# Altium integrated library TI Data Converters Analog to Digital Converter.IntLib: 2197 symbols (part 99 of 168)
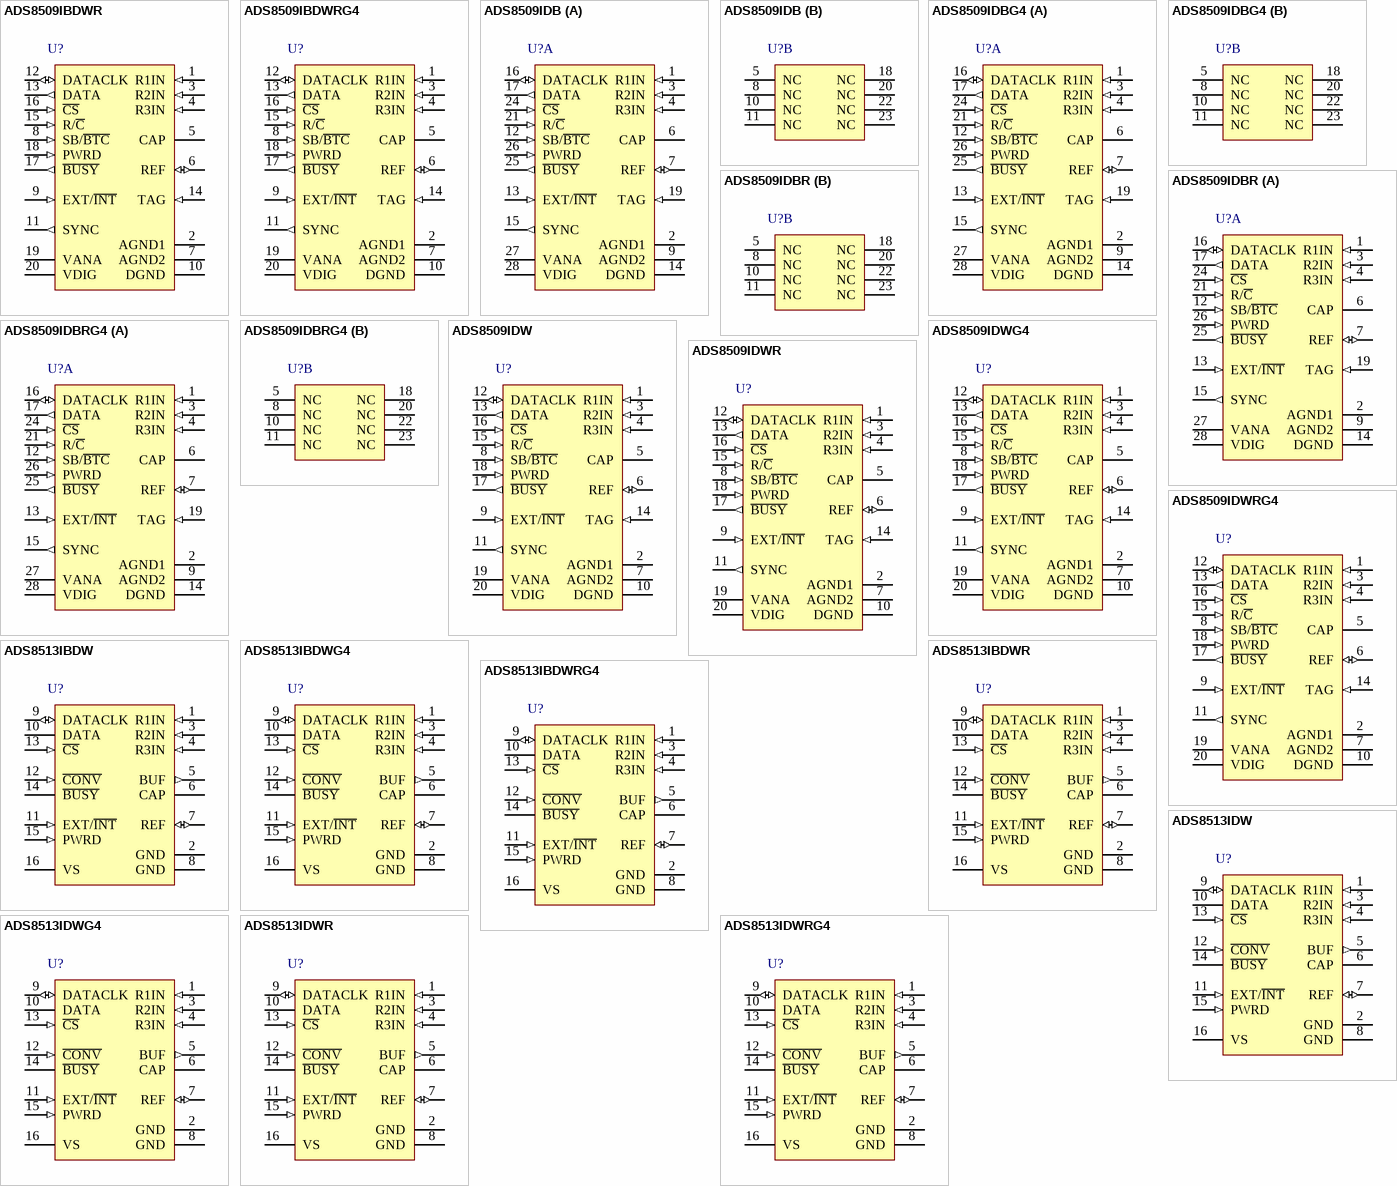
[diagram p224: symbols ADS8509IBDWR to ADS8513IDWRG4]

## ADS8509IDB
designator U?
16-Bit 250 kHz CMOS ADC with Serial Interface 2.5 V Internal Reference, -40 to 85 degC, 28-pin SOP (DB28), Green (RoHS & no Sb/Br); Manufacturer: Texas Instruments; PartNumber: ADS8509IDB; # Input Channels: 1; Analog Voltage AV/DD(Max)(V): 5.25; Analog Voltage AV/DD(Min)(V): 4.75; Architecture: SAR; INL(Max)(+/-LSB): 3; Interface: Serial SPI; Resolution(Bits): 16; Sample Rate (max)(SPS): 250k; SFDR(dB): 99; SINAD(dB): 88; SubFamily: Precision ADC (<=10MSPS); DatasheetVersion: SLAS324C; PackageVersion: 4040065/E, 12/2001; PackageReference: DB28; PackageDescription: 28-Pin Plastic Small Outline, Body 10.2 X 5.3 mm, Pitch 0.65 mm; Supplier 1: Digi-Key; Supplier Part Number 1: ADS1286UK-ND; Supplier 2: Mouser; Supplier Part Number 2: 595-ADS1286UK; Digital Supply(Max)(V): 5.25; Digital Supply(Min)(V): 4.75; Eco-Plan: Green (RoHS & no Sb/Br); SNR(dB): 88; Mounting Technology: Surface Mount; Code_JEDEC: MO-150; ComponentLink1Description: Manufacturer URL; ComponentLink1URL: http://www.ti.com/; ComponentLink2Description: Datasheet; ComponentLink2URL: http://www.ti.com/general/docs/lit/getliterature.tsp?genericPartNumber=ADS8509&fileType=pdf; ComponentLink3Description: Package Specification; ComponentLink3URL: http://www.ti.com/lit/ml/msso002e/msso002e.pdf
footprint TI-DB28_N (SOP, 28-Leads, Body 10.2x5.3mm, Pitch 0.65mm, IPC Medium Density)
footprint TI-DB28_L (SOP, 28-Leads, Body 10.2x5.3mm, Pitch 0.65mm, IPC High Density)
footprint TI-DB28_M (SOP, 28-Leads, Body 10.2x5.3mm, Pitch 0.65mm, IPC Low Density)
part A pins: 1 R1IN (in) "Analog input.", 2 AGND1 (power) "Analog ground. Used internally as ground reference point. Minimal current flow.", 3 R2IN (in) "Analog input.", 4 R3IN (in) "Analog input.", 6 CAP "Reference buffer capacitor. 2.2-uF Tantalum to ground.", 7 REF (io) "Reference input/output. Outputs internal 2.5-V reference. Can also be driven by external system reference. In both cases, bypass to ground with a 2.2-uF tantalum capacitor.", 9 AGND2 (power) "Analog ground", 12 SB/~{BTC} (in) "Select straight binary or binary 2's complement data output format. If high, data is output in a straight binary format. If low, data is output in a binary 2's complement format.", 13 EXT/~{INT} (in) "Selects external or internal clock for transmitting data. If high, data is output synchronized to the clock input on DATACLK. If low, a convert command initiates the transmission of the data from the previous conversion, (See Datasheet)", 14 DGND (power) "Digital ground", 15 SYNC (out) "Sync output. This pin is used to supply a data synchronization pulse when the EXT level is high and at least one external clock pulse has occurred when not in the read mode. See the external clock modes desciptions.", 16 DATACLK (io) "Either an input or an output depending on the EXT/I\N\T\ level. Output data is synchronized to this clock. If EXT/I\N\T\ is low, DATACLK transmits 16 pulses after each conversion and then remains low between conversions.", 17 DATA (out) "Serial data output. Data is synchronized to DATACLK with the format determined by the level of SB/B\T\C\. In the external clock mode, after 16 bits of data, the ADS8509 outputs the level input on TAG as long as C\S\ is low (See Datasheet)", 19 TAG (in) "Tag input for use in the external clock mode. If EXT is high, digital data input from TAG is output on DATA with a delay that is dependent on the external clock mode.", 21 R/~{C} (in) "Read/convert input. With C\S\ low, a falling edge on R/C\ puts the internal sample-and-hold into the hold state and starts a conversion. When EXT/I\N\T\ is low, this also initiates the transmission of the data results from (See Datasheet)", 24 ~{CS} (in) "Chip select. Internally ORed with R/C\.", 25 ~{BUSY} (out) "Busy output. Falls when a conversion is started and remains low until the conversion is completed and the data is latched into the output shift register.", 26 PWRD (in) "Power down input. If high, conversions are inhibited and power consumption is significantly reduced. Results from the previous conversion are maintained in the output shift register.", 27 VANA (power) "Analog supply input. Nominally +5 V. Connect directly to pin 20 and decouple to ground with 0.1-uF ceramic and 10-uF tantalum capacitors.", 28 VDIG (power) "Digital supply input. Nominally +5 V. Connect directly to pin 19. Must be <= VANA."
part B pins: 5 NC "No connect", 8 NC "No connect", 10 NC "No connect", 11 NC "No connect", 18 NC "No connect", 20 NC "No connect", 22 NC "No connect", 23 NC "No connect"

## ADS8509IDBG4
designator U?
16-Bit 250 kHz CMOS ADC with Serial Interface 2.5 V Internal Reference, -40 to 85 degC, 28-pin SOP (DB28), Green (RoHS & no Sb/Br); Manufacturer: Texas Instruments; PartNumber: ADS8509IDBG4; # Input Channels: 1; Analog Voltage AV/DD(Max)(V): 5.25; Analog Voltage AV/DD(Min)(V): 4.75; Architecture: SAR; INL(Max)(+/-LSB): 3; Interface: Serial SPI; Resolution(Bits): 16; Sample Rate (max)(SPS): 250k; SFDR(dB): 99; SINAD(dB): 88; SubFamily: Precision ADC (<=10MSPS); DatasheetVersion: SLAS324C; PackageVersion: 4040065/E, 12/2001; PackageReference: DB28; PackageDescription: 28-Pin Plastic Small Outline, Body 10.2 X 5.3 mm, Pitch 0.65 mm; Supplier 1: Digi-Key; Supplier Part Number 1: ADS1286UKG4-ND; Supplier 2: Mouser; Supplier Part Number 2: 595-ADS1286UKG4; Digital Supply(Max)(V): 5.25; Digital Supply(Min)(V): 4.75; Eco-Plan: Green (RoHS & no Sb/Br); SNR(dB): 88; Mounting Technology: Surface Mount; Code_JEDEC: MO-150; ComponentLink1Description: Manufacturer URL; ComponentLink1URL: http://www.ti.com/; ComponentLink2Description: Datasheet; ComponentLink2URL: http://www.ti.com/general/docs/lit/getliterature.tsp?genericPartNumber=ADS8509&fileType=pdf; ComponentLink3Description: Package Specification; ComponentLink3URL: http://www.ti.com/lit/ml/msso002e/msso002e.pdf
footprint TI-DB28_N (SOP, 28-Leads, Body 10.2x5.3mm, Pitch 0.65mm, IPC Medium Density)
footprint TI-DB28_L (SOP, 28-Leads, Body 10.2x5.3mm, Pitch 0.65mm, IPC High Density)
footprint TI-DB28_M (SOP, 28-Leads, Body 10.2x5.3mm, Pitch 0.65mm, IPC Low Density)
part A pins: 1 R1IN (in) "Analog input.", 2 AGND1 (power) "Analog ground. Used internally as ground reference point. Minimal current flow.", 3 R2IN (in) "Analog input.", 4 R3IN (in) "Analog input.", 6 CAP "Reference buffer capacitor. 2.2-uF Tantalum to ground.", 7 REF (io) "Reference input/output. Outputs internal 2.5-V reference. Can also be driven by external system reference. In both cases, bypass to ground with a 2.2-uF tantalum capacitor.", 9 AGND2 (power) "Analog ground", 12 SB/~{BTC} (in) "Select straight binary or binary 2's complement data output format. If high, data is output in a straight binary format. If low, data is output in a binary 2's complement format.", 13 EXT/~{INT} (in) "Selects external or internal clock for transmitting data. If high, data is output synchronized to the clock input on DATACLK. If low, a convert command initiates the transmission of the data from the previous conversion, (See Datasheet)", 14 DGND (power) "Digital ground", 15 SYNC (out) "Sync output. This pin is used to supply a data synchronization pulse when the EXT level is high and at least one external clock pulse has occurred when not in the read mode. See the external clock modes desciptions.", 16 DATACLK (io) "Either an input or an output depending on the EXT/I\N\T\ level. Output data is synchronized to this clock. If EXT/I\N\T\ is low, DATACLK transmits 16 pulses after each conversion and then remains low between conversions.", 17 DATA (out) "Serial data output. Data is synchronized to DATACLK with the format determined by the level of SB/B\T\C\. In the external clock mode, after 16 bits of data, the ADS8509 outputs the level input on TAG as long as C\S\ is low (See Datasheet)", 19 TAG (in) "Tag input for use in the external clock mode. If EXT is high, digital data input from TAG is output on DATA with a delay that is dependent on the external clock mode.", 21 R/~{C} (in) "Read/convert input. With C\S\ low, a falling edge on R/C\ puts the internal sample-and-hold into the hold state and starts a conversion. When EXT/I\N\T\ is low, this also initiates the transmission of the data results from (See Datasheet)", 24 ~{CS} (in) "Chip select. Internally ORed with R/C\.", 25 ~{BUSY} (out) "Busy output. Falls when a conversion is started and remains low until the conversion is completed and the data is latched into the output shift register.", 26 PWRD (in) "Power down input. If high, conversions are inhibited and power consumption is significantly reduced. Results from the previous conversion are maintained in the output shift register.", 27 VANA (power) "Analog supply input. Nominally +5 V. Connect directly to pin 20 and decouple to ground with 0.1-uF ceramic and 10-uF tantalum capacitors.", 28 VDIG (power) "Digital supply input. Nominally +5 V. Connect directly to pin 19. Must be <= VANA."
part B pins: 5 NC "No connect", 8 NC "No connect", 10 NC "No connect", 11 NC "No connect", 18 NC "No connect", 20 NC "No connect", 22 NC "No connect", 23 NC "No connect"

## ADS8509IDBR
designator U?
16-Bit 250 kHz CMOS ADC with Serial Interface 2.5 V Internal Reference, -40 to 85 degC, 28-pin SOP (DB28), Green (RoHS & no Sb/Br); Manufacturer: Texas Instruments; PartNumber: ADS8509IDBR; # Input Channels: 1; Analog Voltage AV/DD(Max)(V): 5.25; Analog Voltage AV/DD(Min)(V): 4.75; Architecture: SAR; INL(Max)(+/-LSB): 3; Interface: Serial SPI; Resolution(Bits): 16; Sample Rate (max)(SPS): 250k; SFDR(dB): 99; SINAD(dB): 88; SubFamily: Precision ADC (<=10MSPS); DatasheetVersion: SLAS324C; PackageVersion: 4040065/E, 12/2001; PackageReference: DB28; PackageDescription: 28-Pin Plastic Small Outline, Body 10.2 X 5.3 mm, Pitch 0.65 mm; Supplier 1: Digi-Key; Supplier Part Number 1: ADS1286UL-ND; Supplier 2: Newark; Supplier Part Number 2: 74C7024; Supplier 3: Mouser; Supplier Part Number 3: 595-ADS1286UL; Digital Supply(Max)(V): 5.25; Digital Supply(Min)(V): 4.75; Eco-Plan: Green (RoHS & no Sb/Br); SNR(dB): 88; Mounting Technology: Surface Mount; Code_JEDEC: MO-150; ComponentLink1Description: Manufacturer URL; ComponentLink1URL: http://www.ti.com/; ComponentLink2Description: Datasheet; ComponentLink2URL: http://www.ti.com/general/docs/lit/getliterature.tsp?genericPartNumber=ADS8509&fileType=pdf; ComponentLink3Description: Package Specification; ComponentLink3URL: http://www.ti.com/lit/ml/msso002e/msso002e.pdf
footprint TI-DB28_N (SOP, 28-Leads, Body 10.2x5.3mm, Pitch 0.65mm, IPC Medium Density)
footprint TI-DB28_L (SOP, 28-Leads, Body 10.2x5.3mm, Pitch 0.65mm, IPC High Density)
footprint TI-DB28_M (SOP, 28-Leads, Body 10.2x5.3mm, Pitch 0.65mm, IPC Low Density)
part A pins: 1 R1IN (in) "Analog input.", 2 AGND1 (power) "Analog ground. Used internally as ground reference point. Minimal current flow.", 3 R2IN (in) "Analog input.", 4 R3IN (in) "Analog input.", 6 CAP "Reference buffer capacitor. 2.2-uF Tantalum to ground.", 7 REF (io) "Reference input/output. Outputs internal 2.5-V reference. Can also be driven by external system reference. In both cases, bypass to ground with a 2.2-uF tantalum capacitor.", 9 AGND2 (power) "Analog ground", 12 SB/~{BTC} (in) "Select straight binary or binary 2's complement data output format. If high, data is output in a straight binary format. If low, data is output in a binary 2's complement format.", 13 EXT/~{INT} (in) "Selects external or internal clock for transmitting data. If high, data is output synchronized to the clock input on DATACLK. If low, a convert command initiates the transmission of the data from the previous conversion, (See Datasheet)", 14 DGND (power) "Digital ground", 15 SYNC (out) "Sync output. This pin is used to supply a data synchronization pulse when the EXT level is high and at least one external clock pulse has occurred when not in the read mode. See the external clock modes desciptions.", 16 DATACLK (io) "Either an input or an output depending on the EXT/I\N\T\ level. Output data is synchronized to this clock. If EXT/I\N\T\ is low, DATACLK transmits 16 pulses after each conversion and then remains low between conversions.", 17 DATA (out) "Serial data output. Data is synchronized to DATACLK with the format determined by the level of SB/B\T\C\. In the external clock mode, after 16 bits of data, the ADS8509 outputs the level input on TAG as long as C\S\ is low (See Datasheet)", 19 TAG (in) "Tag input for use in the external clock mode. If EXT is high, digital data input from TAG is output on DATA with a delay that is dependent on the external clock mode.", 21 R/~{C} (in) "Read/convert input. With C\S\ low, a falling edge on R/C\ puts the internal sample-and-hold into the hold state and starts a conversion. When EXT/I\N\T\ is low, this also initiates the transmission of the data results from (See Datasheet)", 24 ~{CS} (in) "Chip select. Internally ORed with R/C\.", 25 ~{BUSY} (out) "Busy output. Falls when a conversion is started and remains low until the conversion is completed and the data is latched into the output shift register.", 26 PWRD (in) "Power down input. If high, conversions are inhibited and power consumption is significantly reduced. Results from the previous conversion are maintained in the output shift register.", 27 VANA (power) "Analog supply input. Nominally +5 V. Connect directly to pin 20 and decouple to ground with 0.1-uF ceramic and 10-uF tantalum capacitors.", 28 VDIG (power) "Digital supply input. Nominally +5 V. Connect directly to pin 19. Must be <= VANA."
part B pins: 5 NC "No connect", 8 NC "No connect", 10 NC "No connect", 11 NC "No connect", 18 NC "No connect", 20 NC "No connect", 22 NC "No connect", 23 NC "No connect"

## ADS8509IDBRG4
designator U?
16-Bit 250 kHz CMOS ADC with Serial Interface 2.5 V Internal Reference, -40 to 85 degC, 28-pin SOP (DB28), Green (RoHS & no Sb/Br); Manufacturer: Texas Instruments; PartNumber: ADS8509IDBRG4; # Input Channels: 1; Analog Voltage AV/DD(Max)(V): 5.25; Analog Voltage AV/DD(Min)(V): 4.75; Architecture: SAR; INL(Max)(+/-LSB): 3; Interface: Serial SPI; Resolution(Bits): 16; Sample Rate (max)(SPS): 250k; SFDR(dB): 99; SINAD(dB): 88; SubFamily: Precision ADC (<=10MSPS); DatasheetVersion: SLAS324C; PackageVersion: 4040065/E, 12/2001; PackageReference: DB28; PackageDescription: 28-Pin Plastic Small Outline, Body 10.2 X 5.3 mm, Pitch 0.65 mm; Supplier 1: Digi-Key; Supplier Part Number 1: ADS1286UL/2K5-ND; Supplier 2: Mouser; Supplier Part Number 2: 595-ADS1286UL/2K5; Digital Supply(Max)(V): 5.25; Digital Supply(Min)(V): 4.75; Eco-Plan: Green (RoHS & no Sb/Br); SNR(dB): 88; Mounting Technology: Surface Mount; Code_JEDEC: MO-150; ComponentLink1Description: Manufacturer URL; ComponentLink1URL: http://www.ti.com/; ComponentLink2Description: Datasheet; ComponentLink2URL: http://www.ti.com/general/docs/lit/getliterature.tsp?genericPartNumber=ADS8509&fileType=pdf; ComponentLink3Description: Package Specification; ComponentLink3URL: http://www.ti.com/lit/ml/msso002e/msso002e.pdf
footprint TI-DB28_N (SOP, 28-Leads, Body 10.2x5.3mm, Pitch 0.65mm, IPC Medium Density)
footprint TI-DB28_L (SOP, 28-Leads, Body 10.2x5.3mm, Pitch 0.65mm, IPC High Density)
footprint TI-DB28_M (SOP, 28-Leads, Body 10.2x5.3mm, Pitch 0.65mm, IPC Low Density)
part A pins: 1 R1IN (in) "Analog input.", 2 AGND1 (power) "Analog ground. Used internally as ground reference point. Minimal current flow.", 3 R2IN (in) "Analog input.", 4 R3IN (in) "Analog input.", 6 CAP "Reference buffer capacitor. 2.2-uF Tantalum to ground.", 7 REF (io) "Reference input/output. Outputs internal 2.5-V reference. Can also be driven by external system reference. In both cases, bypass to ground with a 2.2-uF tantalum capacitor.", 9 AGND2 (power) "Analog ground", 12 SB/~{BTC} (in) "Select straight binary or binary 2's complement data output format. If high, data is output in a straight binary format. If low, data is output in a binary 2's complement format.", 13 EXT/~{INT} (in) "Selects external or internal clock for transmitting data. If high, data is output synchronized to the clock input on DATACLK. If low, a convert command initiates the transmission of the data from the previous conversion, (See Datasheet)", 14 DGND (power) "Digital ground", 15 SYNC (out) "Sync output. This pin is used to supply a data synchronization pulse when the EXT level is high and at least one external clock pulse has occurred when not in the read mode. See the external clock modes desciptions.", 16 DATACLK (io) "Either an input or an output depending on the EXT/I\N\T\ level. Output data is synchronized to this clock. If EXT/I\N\T\ is low, DATACLK transmits 16 pulses after each conversion and then remains low between conversions.", 17 DATA (out) "Serial data output. Data is synchronized to DATACLK with the format determined by the level of SB/B\T\C\. In the external clock mode, after 16 bits of data, the ADS8509 outputs the level input on TAG as long as C\S\ is low (See Datasheet)", 19 TAG (in) "Tag input for use in the external clock mode. If EXT is high, digital data input from TAG is output on DATA with a delay that is dependent on the external clock mode.", 21 R/~{C} (in) "Read/convert input. With C\S\ low, a falling edge on R/C\ puts the internal sample-and-hold into the hold state and starts a conversion. When EXT/I\N\T\ is low, this also initiates the transmission of the data results from (See Datasheet)", 24 ~{CS} (in) "Chip select. Internally ORed with R/C\.", 25 ~{BUSY} (out) "Busy output. Falls when a conversion is started and remains low until the conversion is completed and the data is latched into the output shift register.", 26 PWRD (in) "Power down input. If high, conversions are inhibited and power consumption is significantly reduced. Results from the previous conversion are maintained in the output shift register.", 27 VANA (power) "Analog supply input. Nominally +5 V. Connect directly to pin 20 and decouple to ground with 0.1-uF ceramic and 10-uF tantalum capacitors.", 28 VDIG (power) "Digital supply input. Nominally +5 V. Connect directly to pin 19. Must be <= VANA."
part B pins: 5 NC "No connect", 8 NC "No connect", 10 NC "No connect", 11 NC "No connect", 18 NC "No connect", 20 NC "No connect", 22 NC "No connect", 23 NC "No connect"

## ADS8509IDW
designator U?
16-Bit 250 kHz CMOS ADC with Serial Interface 2.5 V Internal Reference, -40 to 85 degC, 20-pin SOIC (DW20), Green (RoHS & no Sb/Br); Manufacturer: Texas Instruments; PartNumber: ADS8509IDW; # Input Channels: 1; Analog Voltage AV/DD(Max)(V): 5.25; Analog Voltage AV/DD(Min)(V): 4.75; Architecture: SAR; INL(Max)(+/-LSB): 3; Interface: Serial SPI; Resolution(Bits): 16; Sample Rate (max)(SPS): 250k; SFDR(dB): 99; SINAD(dB): 88; SubFamily: Precision ADC (<=10MSPS); DatasheetVersion: SLAS324C; PackageVersion: 4040000-4/G, 01/2011; PackageReference: DW20; PackageDescription: 20-Pin Plastic Small Outline, Body 12.8 x 7.5 mm, Pitch 1.27 mm; Supplier 1: Digi-Key; Supplier Part Number 1: ADS1286UL/2K5G4-ND; Supplier 2: Mouser; Supplier Part Number 2: 595-ADS1286UL/2K5G4; Digital Supply(Max)(V): 5.25; Digital Supply(Min)(V): 4.75; Eco-Plan: Green (RoHS & no Sb/Br); SNR(dB): 88; Mounting Technology: Surface Mount; Code_JEDEC: MO-013; ComponentLink1Description: Manufacturer URL; ComponentLink1URL: http://www.ti.com/; ComponentLink2Description: Datasheet; ComponentLink2URL: http://www.ti.com/general/docs/lit/getliterature.tsp?genericPartNumber=ADS8509&fileType=pdf; ComponentLink3Description: Package Specification; ComponentLink3URL: http://www.ti.com/lit/ml/mpds173a/mpds173a.pdf
footprint TI-DW20_N (SOIC, 20-Leads, Body 12.8x7.5mm, Pitch 1.27mm, IPC Medium Density)
footprint TI-DW20_L (SOIC, 20-Leads, Body 12.8x7.5mm, Pitch 1.27mm, IPC High Density)
footprint TI-DW20_M (SOIC, 20-Leads, Body 12.8x7.5mm, Pitch 1.27mm, IPC Low Density)
pins: 1 R1IN (in) "Analog input.", 2 AGND1 (power) "Analog ground. Used internally as ground reference point. Minimal current flow.", 3 R2IN (in) "Analog input.", 4 R3IN (in) "Analog input.", 5 CAP "Reference buffer capacitor. 2.2-uF Tantalum to ground.", 6 REF (io) "Reference input/output. Outputs internal 2.5-V reference. Can also be driven by external system reference. In both cases, bypass to ground with a 2.2-uF tantalum capacitor.", 7 AGND2 (power) "Analog ground", 8 SB/~{BTC} (in) "Select straight binary or binary 2's complement data output format. If high, data is output in a straight binary format. If low, data is output in a binary 2's complement format.", 9 EXT/~{INT} (in) "Selects external or internal clock for transmitting data. If high, data is output synchronized to the clock input on DATACLK. If low, a convert command initiates the transmission of the data from the previous conversion, (See Datasheet)", 10 DGND (power) "Digital ground", 11 SYNC (out) "Sync output. This pin is used to supply a data synchronization pulse when the EXT level is high and at least one external clock pulse has occurred when not in the read mode. See the external clock modes desciptions.", 12 DATACLK (io) "Either an input or an output depending on the EXT/I\N\T\ level. Output data is synchronized to this clock. If EXT/I\N\T\ is low, DATACLK transmits 16 pulses after each conversion and then remains low between conversions.", 13 DATA (out) "Serial data output. Data is synchronized to DATACLK with the format determined by the level of SB/B\T\C\. In the external clock mode, after 16 bits of data, the ADS8509 outputs the level input on TAG as long as C\S\ is low (See Datasheet)", 14 TAG (in) "Tag input for use in the external clock mode. If EXT is high, digital data input from TAG is output on DATA with a delay that is dependent on the external clock mode.", 15 R/~{C} (in) "Read/convert input. With C\S\ low, a falling edge on R/C\ puts the internal sample-and-hold into the hold state and starts a conversion. When EXT/I\N\T\ is low, this also initiates the transmission of the data results from (See Datasheet)", 16 ~{CS} (in) "Chip select. Internally ORed with R/C\.", 17 ~{BUSY} (out) "Busy output. Falls when a conversion is started and remains low until the conversion is completed and the data is latched into the output shift register.", 18 PWRD (in) "Power down input. If high, conversions are inhibited and power consumption is significantly reduced. Results from the previous conversion are maintained in the output shift register.", 19 VANA (power) "Analog supply input. Nominally +5 V. Connect directly to pin 20 and decouple to ground with 0.1-uF ceramic and 10-uF tantalum capacitors.", 20 VDIG (power) "Digital supply input. Nominally +5 V. Connect directly to pin 19. Must be =< VANA."

## ADS8509IDWG4
designator U?
16-Bit 250 kHz CMOS ADC with Serial Interface 2.5 V Internal Reference, -40 to 85 degC, 20-pin SOIC (DW20), Green (RoHS & no Sb/Br); Manufacturer: Texas Instruments; PartNumber: ADS8509IDWG4; # Input Channels: 1; Analog Voltage AV/DD(Max)(V): 5.25; Analog Voltage AV/DD(Min)(V): 4.75; Architecture: SAR; INL(Max)(+/-LSB): 3; Interface: Serial SPI; Resolution(Bits): 16; Sample Rate (max)(SPS): 250k; SFDR(dB): 99; SINAD(dB): 88; SubFamily: Precision ADC (<=10MSPS); DatasheetVersion: SLAS324C; PackageVersion: 4040000-4/G, 01/2011; PackageReference: DW20; PackageDescription: 20-Pin Plastic Small Outline, Body 12.8 x 7.5 mm, Pitch 1.27 mm; Supplier 1: Digi-Key; Supplier Part Number 1: ADS1286ULG4-ND; Supplier 2: Mouser; Supplier Part Number 2: 595-ADS1286ULG4; Digital Supply(Max)(V): 5.25; Digital Supply(Min)(V): 4.75; Eco-Plan: Green (RoHS & no Sb/Br); SNR(dB): 88; Mounting Technology: Surface Mount; Code_JEDEC: MO-013; ComponentLink1Description: Manufacturer URL; ComponentLink1URL: http://www.ti.com/; ComponentLink2Description: Datasheet; ComponentLink2URL: http://www.ti.com/general/docs/lit/getliterature.tsp?genericPartNumber=ADS8509&fileType=pdf; ComponentLink3Description: Package Specification; ComponentLink3URL: http://www.ti.com/lit/ml/mpds173a/mpds173a.pdf
footprint TI-DW20_N (SOIC, 20-Leads, Body 12.8x7.5mm, Pitch 1.27mm, IPC Medium Density)
footprint TI-DW20_L (SOIC, 20-Leads, Body 12.8x7.5mm, Pitch 1.27mm, IPC High Density)
footprint TI-DW20_M (SOIC, 20-Leads, Body 12.8x7.5mm, Pitch 1.27mm, IPC Low Density)
pins: 1 R1IN (in) "Analog input.", 2 AGND1 (power) "Analog ground. Used internally as ground reference point. Minimal current flow.", 3 R2IN (in) "Analog input.", 4 R3IN (in) "Analog input.", 5 CAP "Reference buffer capacitor. 2.2-uF Tantalum to ground.", 6 REF (io) "Reference input/output. Outputs internal 2.5-V reference. Can also be driven by external system reference. In both cases, bypass to ground with a 2.2-uF tantalum capacitor.", 7 AGND2 (power) "Analog ground", 8 SB/~{BTC} (in) "Select straight binary or binary 2's complement data output format. If high, data is output in a straight binary format. If low, data is output in a binary 2's complement format.", 9 EXT/~{INT} (in) "Selects external or internal clock for transmitting data. If high, data is output synchronized to the clock input on DATACLK. If low, a convert command initiates the transmission of the data from the previous conversion, (See Datasheet)", 10 DGND (power) "Digital ground", 11 SYNC (out) "Sync output. This pin is used to supply a data synchronization pulse when the EXT level is high and at least one external clock pulse has occurred when not in the read mode. See the external clock modes desciptions.", 12 DATACLK (io) "Either an input or an output depending on the EXT/I\N\T\ level. Output data is synchronized to this clock. If EXT/I\N\T\ is low, DATACLK transmits 16 pulses after each conversion and then remains low between conversions.", 13 DATA (out) "Serial data output. Data is synchronized to DATACLK with the format determined by the level of SB/B\T\C\. In the external clock mode, after 16 bits of data, the ADS8509 outputs the level input on TAG as long as C\S\ is low (See Datasheet)", 14 TAG (in) "Tag input for use in the external clock mode. If EXT is high, digital data input from TAG is output on DATA with a delay that is dependent on the external clock mode.", 15 R/~{C} (in) "Read/convert input. With C\S\ low, a falling edge on R/C\ puts the internal sample-and-hold into the hold state and starts a conversion. When EXT/I\N\T\ is low, this also initiates the transmission of the data results from (See Datasheet)", 16 ~{CS} (in) "Chip select. Internally ORed with R/C\.", 17 ~{BUSY} (out) "Busy output. Falls when a conversion is started and remains low until the conversion is completed and the data is latched into the output shift register.", 18 PWRD (in) "Power down input. If high, conversions are inhibited and power consumption is significantly reduced. Results from the previous conversion are maintained in the output shift register.", 19 VANA (power) "Analog supply input. Nominally +5 V. Connect directly to pin 20 and decouple to ground with 0.1-uF ceramic and 10-uF tantalum capacitors.", 20 VDIG (power) "Digital supply input. Nominally +5 V. Connect directly to pin 19. Must be =< VANA."

## ADS8509IDWR
designator U?
16-Bit 250 kHz CMOS ADC with Serial Interface 2.5 V Internal Reference, -40 to 85 degC, 20-pin SOIC (DW20), Green (RoHS & no Sb/Br); Manufacturer: Texas Instruments; PartNumber: ADS8509IDWR; # Input Channels: 1; Analog Voltage AV/DD(Max)(V): 5.25; Analog Voltage AV/DD(Min)(V): 4.75; Architecture: SAR; INL(Max)(+/-LSB): 3; Interface: Serial SPI; Resolution(Bits): 16; Sample Rate (max)(SPS): 250k; SFDR(dB): 99; SINAD(dB): 88; SubFamily: Precision ADC (<=10MSPS); DatasheetVersion: SLAS324C; PackageVersion: 4040000-4/G, 01/2011; PackageReference: DW20; PackageDescription: 20-Pin Plastic Small Outline, Body 12.8 x 7.5 mm, Pitch 1.27 mm; Supplier 1: Digi-Key; Supplier Part Number 1: ADS7825P-ND; Supplier 2: Newark; Supplier Part Number 2: 14M8150; Supplier 3: Mouser; Supplier Part Number 3: 595-ADS7825P; Digital Supply(Max)(V): 5.25; Digital Supply(Min)(V): 4.75; Eco-Plan: Green (RoHS & no Sb/Br); SNR(dB): 88; Mounting Technology: Surface Mount; Code_JEDEC: MO-013; ComponentLink1Description: Manufacturer URL; ComponentLink1URL: http://www.ti.com/; ComponentLink2Description: Datasheet; ComponentLink2URL: http://www.ti.com/general/docs/lit/getliterature.tsp?genericPartNumber=ADS8509&fileType=pdf; ComponentLink3Description: Package Specification; ComponentLink3URL: http://www.ti.com/lit/ml/mpds173a/mpds173a.pdf
footprint TI-DW20_N (SOIC, 20-Leads, Body 12.8x7.5mm, Pitch 1.27mm, IPC Medium Density)
footprint TI-DW20_L (SOIC, 20-Leads, Body 12.8x7.5mm, Pitch 1.27mm, IPC High Density)
footprint TI-DW20_M (SOIC, 20-Leads, Body 12.8x7.5mm, Pitch 1.27mm, IPC Low Density)
pins: 1 R1IN (in) "Analog input.", 2 AGND1 (power) "Analog ground. Used internally as ground reference point. Minimal current flow.", 3 R2IN (in) "Analog input.", 4 R3IN (in) "Analog input.", 5 CAP "Reference buffer capacitor. 2.2-uF Tantalum to ground.", 6 REF (io) "Reference input/output. Outputs internal 2.5-V reference. Can also be driven by external system reference. In both cases, bypass to ground with a 2.2-uF tantalum capacitor.", 7 AGND2 (power) "Analog ground", 8 SB/~{BTC} (in) "Select straight binary or binary 2's complement data output format. If high, data is output in a straight binary format. If low, data is output in a binary 2's complement format.", 9 EXT/~{INT} (in) "Selects external or internal clock for transmitting data. If high, data is output synchronized to the clock input on DATACLK. If low, a convert command initiates the transmission of the data from the previous conversion, (See Datasheet)", 10 DGND (power) "Digital ground", 11 SYNC (out) "Sync output. This pin is used to supply a data synchronization pulse when the EXT level is high and at least one external clock pulse has occurred when not in the read mode. See the external clock modes desciptions.", 12 DATACLK (io) "Either an input or an output depending on the EXT/I\N\T\ level. Output data is synchronized to this clock. If EXT/I\N\T\ is low, DATACLK transmits 16 pulses after each conversion and then remains low between conversions.", 13 DATA (out) "Serial data output. Data is synchronized to DATACLK with the format determined by the level of SB/B\T\C\. In the external clock mode, after 16 bits of data, the ADS8509 outputs the level input on TAG as long as C\S\ is low (See Datasheet)", 14 TAG (in) "Tag input for use in the external clock mode. If EXT is high, digital data input from TAG is output on DATA with a delay that is dependent on the external clock mode.", 15 R/~{C} (in) "Read/convert input. With C\S\ low, a falling edge on R/C\ puts the internal sample-and-hold into the hold state and starts a conversion. When EXT/I\N\T\ is low, this also initiates the transmission of the data results from (See Datasheet)", 16 ~{CS} (in) "Chip select. Internally ORed with R/C\.", 17 ~{BUSY} (out) "Busy output. Falls when a conversion is started and remains low until the conversion is completed and the data is latched into the output shift register.", 18 PWRD (in) "Power down input. If high, conversions are inhibited and power consumption is significantly reduced. Results from the previous conversion are maintained in the output shift register.", 19 VANA (power) "Analog supply input. Nominally +5 V. Connect directly to pin 20 and decouple to ground with 0.1-uF ceramic and 10-uF tantalum capacitors.", 20 VDIG (power) "Digital supply input. Nominally +5 V. Connect directly to pin 19. Must be =< VANA."

## ADS8509IDWRG4
designator U?
16-Bit 250 kHz CMOS ADC with Serial Interface 2.5 V Internal Reference, -40 to 85 degC, 20-pin SOIC (DW20), Green (RoHS & no Sb/Br); Manufacturer: Texas Instruments; PartNumber: ADS8509IDWRG4; # Input Channels: 1; Analog Voltage AV/DD(Max)(V): 5.25; Analog Voltage AV/DD(Min)(V): 4.75; Architecture: SAR; INL(Max)(+/-LSB): 3; Interface: Serial SPI; Resolution(Bits): 16; Sample Rate (max)(SPS): 250k; SFDR(dB): 99; SINAD(dB): 88; SubFamily: Precision ADC (<=10MSPS); DatasheetVersion: SLAS324C; PackageVersion: 4040000-4/G, 01/2011; PackageReference: DW20; PackageDescription: 20-Pin Plastic Small Outline, Body 12.8 x 7.5 mm, Pitch 1.27 mm; Supplier 1: Digi-Key; Supplier Part Number 1: ADS7825PB-ND; Supplier 2: Farnell; Supplier Part Number 2: 1459283; Supplier 3: Newark; Supplier Part Number 3: 74C7154; Supplier 4: Mouser; Supplier Part Number 4: 595-ADS7825PB; Digital Supply(Max)(V): 5.25; Digital Supply(Min)(V): 4.75; Eco-Plan: Green (RoHS & no Sb/Br); SNR(dB): 88; Mounting Technology: Surface Mount; Code_JEDEC: MO-013; ComponentLink1Description: Manufacturer URL; ComponentLink1URL: http://www.ti.com/; ComponentLink2Description: Datasheet; ComponentLink2URL: http://www.ti.com/general/docs/lit/getliterature.tsp?genericPartNumber=ADS8509&fileType=pdf; ComponentLink3Description: Package Specification; ComponentLink3URL: http://www.ti.com/lit/ml/mpds173a/mpds173a.pdf
footprint TI-DW20_N (SOIC, 20-Leads, Body 12.8x7.5mm, Pitch 1.27mm, IPC Medium Density)
footprint TI-DW20_L (SOIC, 20-Leads, Body 12.8x7.5mm, Pitch 1.27mm, IPC High Density)
footprint TI-DW20_M (SOIC, 20-Leads, Body 12.8x7.5mm, Pitch 1.27mm, IPC Low Density)
pins: 1 R1IN (in) "Analog input.", 2 AGND1 (power) "Analog ground. Used internally as ground reference point. Minimal current flow.", 3 R2IN (in) "Analog input.", 4 R3IN (in) "Analog input.", 5 CAP "Reference buffer capacitor. 2.2-uF Tantalum to ground.", 6 REF (io) "Reference input/output. Outputs internal 2.5-V reference. Can also be driven by external system reference. In both cases, bypass to ground with a 2.2-uF tantalum capacitor.", 7 AGND2 (power) "Analog ground", 8 SB/~{BTC} (in) "Select straight binary or binary 2's complement data output format. If high, data is output in a straight binary format. If low, data is output in a binary 2's complement format.", 9 EXT/~{INT} (in) "Selects external or internal clock for transmitting data. If high, data is output synchronized to the clock input on DATACLK. If low, a convert command initiates the transmission of the data from the previous conversion, (See Datasheet)", 10 DGND (power) "Digital ground", 11 SYNC (out) "Sync output. This pin is used to supply a data synchronization pulse when the EXT level is high and at least one external clock pulse has occurred when not in the read mode. See the external clock modes desciptions.", 12 DATACLK (io) "Either an input or an output depending on the EXT/I\N\T\ level. Output data is synchronized to this clock. If EXT/I\N\T\ is low, DATACLK transmits 16 pulses after each conversion and then remains low between conversions.", 13 DATA (out) "Serial data output. Data is synchronized to DATACLK with the format determined by the level of SB/B\T\C\. In the external clock mode, after 16 bits of data, the ADS8509 outputs the level input on TAG as long as C\S\ is low (See Datasheet)", 14 TAG (in) "Tag input for use in the external clock mode. If EXT is high, digital data input from TAG is output on DATA with a delay that is dependent on the external clock mode.", 15 R/~{C} (in) "Read/convert input. With C\S\ low, a falling edge on R/C\ puts the internal sample-and-hold into the hold state and starts a conversion. When EXT/I\N\T\ is low, this also initiates the transmission of the data results from (See Datasheet)", 16 ~{CS} (in) "Chip select. Internally ORed with R/C\.", 17 ~{BUSY} (out) "Busy output. Falls when a conversion is started and remains low until the conversion is completed and the data is latched into the output shift register.", 18 PWRD (in) "Power down input. If high, conversions are inhibited and power consumption is significantly reduced. Results from the previous conversion are maintained in the output shift register.", 19 VANA (power) "Analog supply input. Nominally +5 V. Connect directly to pin 20 and decouple to ground with 0.1-uF ceramic and 10-uF tantalum capacitors.", 20 VDIG (power) "Digital supply input. Nominally +5 V. Connect directly to pin 19. Must be =< VANA."

## ADS8513IBDW
designator U?
16-Bit 40 kSPS Low Power Sampling ADC with IR & Serial Interface and TAG, -40 to 85 degC, 16-pin SOIC (DW16), Green (RoHS & no Sb/Br); Manufacturer: Texas Instruments; PartNumber: ADS8513IBDW; # Input Channels: 1; Analog Voltage AV/DD(Max)(V): 5.25; Analog Voltage AV/DD(Min)(V): 4.75; Architecture: SAR; INL(Max)(+/-LSB): 2; Interface: Serial SPI; Resolution(Bits): 16; Sample Rate (max)(SPS): 40k; SFDR(dB): 102; SINAD(dB): 89; SubFamily: Precision ADC (<=10MSPS); DatasheetVersion: SLAS486C; PackageVersion: 4040000-2/G, 01/2011; PackageReference: DW16; PackageDescription: 16-Pin Plastic Small Outline, Body 10.30 x 7.50 mm, Pitch 1.27 mm; Supplier 1: Digi-Key; Supplier Part Number 1: ADS7825PBG4-ND; Supplier 2: Newark; Supplier Part Number 2: 59M9822; Supplier 3: Mouser; Supplier Part Number 3: 595-ADS7825PBG4; Digital Supply(Max)(V): 5.25; Digital Supply(Min)(V): 4.75; Eco-Plan: Green (RoHS & no Sb/Br); SNR(dB): 89; Mounting Technology: Surface Mount; Code_JEDEC: MS-013; ComponentLink1Description: Manufacturer URL; ComponentLink1URL: http://www.ti.com/; ComponentLink2Description: Datasheet; ComponentLink2URL: http://www.ti.com/general/docs/lit/getliterature.tsp?genericPartNumber=ADS8513&fileType=pdf; ComponentLink3Description: Package Specification; ComponentLink3URL: http://www.ti.com/litv/pdf/msoi003g
footprint TI-DW16_N (SOIC, 16-Leads, Body 10.3x7.5mm, Pitch 1.27mm, IPC Medium Density)
footprint TI-DW16_L (SOIC, 16-Leads, Body 10.3x7.5mm, Pitch 1.27mm, IPC High Density)
footprint TI-DW16_M (SOIC, 16-Leads, Body 10.3x7.5mm, Pitch 1.27mm, IPC Low Density)
pins: 1 R1IN (in) "Analog input", 2 GND (power) "Ground.", 3 R2IN (in) "Analog input", 4 R3IN (in) "Analog input", 5 BUF (out) "Reference buffer output. Connect to R1IN, R2IN, or R3IN as needed", 6 CAP "Reference buffer compensation node. Decouple to ground with a 1-uF tantalum capacitor in parallel with a 0.01uF ceramic capacitor.", 7 REF (io) "Reference input/output. Outputs internal 2.5V reference via a series 4kohm resistor. Decouple this voltage with a 1uF to 2.2uF tantalum capacitor to ground. If an external reference voltage is applied to this pin, it (See Datasheet)", 8 GND (power) "Ground.", 9 DATACLK (io) "Data clock pin. With EXT/I\N\T\ low, this pin is an output and provides the synchronous clock for the serial data. The output is 3-stated when C\S\ is high. With EXT/I\N\T\ high, this pin is an input and the serial data (See Datasheet)", 10 DATA (hiz) "Serial data output. The serial data are always the result of the last completed conversion and are synchronized to DATACLK. If DATACLK is from the internal clock (EXT/I\N\T\ low), the serial data are valid on both the rising (See Datasheet)", 11 EXT/~{INT} (in), 12 ~{CONV} (in) "Convert input. A falling edge on this input puts the internal sample/hold into the hold state and starts a conversion regardless of the state of C\S\. If a conversion is already in progress, the falling edge is ignored. If (See Datasheet)", 13 ~{CS} (in) "Chip select. This input 3-states all outputs when high and enables all outputs when low, including DATA, B\U\S\Y\, and DATACLK (when EXT/I\N\T\ is low). Note that a falling edge on C\O\N\V\ initiates a conversion even when (See Datasheet)", 14 ~{BUSY} (hiz) "Busy output. When a conversion starts, B\U\S\Y\ goes low and remains low throughout the conversion. If EXT/I\N\T\ is low, data are serially transmitted while B\U\S\Y\ is low. B\U\S\Y\ is 3-stated when C\S\ is high.", 15 PWRD (in) "Power-down input. When high, the majority of the ADS7812/ADS7813/ADS8513 circuitry is placed in a low-power mode and power consumption is significantly reduced.", 16 VS (power) "+5V supply input. For best performance, decouple to ground with a 0.1uF ceramic capacitor in parallel with a 10uF tantalum capacitor."

## ADS8513IBDWG4
designator U?
16-Bit 40 kSPS Low Power Sampling ADC with IR & Serial Interface and TAG, -40 to 85 degC, 16-pin SOIC (DW16), Green (RoHS & no Sb/Br); Manufacturer: Texas Instruments; PartNumber: ADS8513IBDWG4; # Input Channels: 1; Analog Voltage AV/DD(Max)(V): 5.25; Analog Voltage AV/DD(Min)(V): 4.75; Architecture: SAR; INL(Max)(+/-LSB): 2; Interface: Serial SPI; Resolution(Bits): 16; Sample Rate (max)(SPS): 40k; SFDR(dB): 102; SINAD(dB): 89; SubFamily: Precision ADC (<=10MSPS); DatasheetVersion: SLAS486C; PackageVersion: 4040000-2/G, 01/2011; PackageReference: DW16; PackageDescription: 16-Pin Plastic Small Outline, Body 10.30 x 7.50 mm, Pitch 1.27 mm; Supplier 1: Digi-Key; Supplier Part Number 1: ADS7825PG4-ND; Supplier 2: Mouser; Supplier Part Number 2: 595-ADS7825PG4; Digital Supply(Max)(V): 5.25; Digital Supply(Min)(V): 4.75; Eco-Plan: Green (RoHS & no Sb/Br); SNR(dB): 89; Mounting Technology: Surface Mount; Code_JEDEC: MS-013; ComponentLink1Description: Manufacturer URL; ComponentLink1URL: http://www.ti.com/; ComponentLink2Description: Datasheet; ComponentLink2URL: http://www.ti.com/general/docs/lit/getliterature.tsp?genericPartNumber=ADS8513&fileType=pdf; ComponentLink3Description: Package Specification; ComponentLink3URL: http://www.ti.com/litv/pdf/msoi003g
footprint TI-DW16_N (SOIC, 16-Leads, Body 10.3x7.5mm, Pitch 1.27mm, IPC Medium Density)
footprint TI-DW16_L (SOIC, 16-Leads, Body 10.3x7.5mm, Pitch 1.27mm, IPC High Density)
footprint TI-DW16_M (SOIC, 16-Leads, Body 10.3x7.5mm, Pitch 1.27mm, IPC Low Density)
pins: 1 R1IN (in) "Analog input", 2 GND (power) "Ground.", 3 R2IN (in) "Analog input", 4 R3IN (in) "Analog input", 5 BUF (out) "Reference buffer output. Connect to R1IN, R2IN, or R3IN as needed", 6 CAP "Reference buffer compensation node. Decouple to ground with a 1-uF tantalum capacitor in parallel with a 0.01uF ceramic capacitor.", 7 REF (io) "Reference input/output. Outputs internal 2.5V reference via a series 4kohm resistor. Decouple this voltage with a 1uF to 2.2uF tantalum capacitor to ground. If an external reference voltage is applied to this pin, it (See Datasheet)", 8 GND (power) "Ground.", 9 DATACLK (io) "Data clock pin. With EXT/I\N\T\ low, this pin is an output and provides the synchronous clock for the serial data. The output is 3-stated when C\S\ is high. With EXT/I\N\T\ high, this pin is an input and the serial data (See Datasheet)", 10 DATA (hiz) "Serial data output. The serial data are always the result of the last completed conversion and are synchronized to DATACLK. If DATACLK is from the internal clock (EXT/I\N\T\ low), the serial data are valid on both the rising (See Datasheet)", 11 EXT/~{INT} (in), 12 ~{CONV} (in) "Convert input. A falling edge on this input puts the internal sample/hold into the hold state and starts a conversion regardless of the state of C\S\. If a conversion is already in progress, the falling edge is ignored. If (See Datasheet)", 13 ~{CS} (in) "Chip select. This input 3-states all outputs when high and enables all outputs when low, including DATA, B\U\S\Y\, and DATACLK (when EXT/I\N\T\ is low). Note that a falling edge on C\O\N\V\ initiates a conversion even when (See Datasheet)", 14 ~{BUSY} (hiz) "Busy output. When a conversion starts, B\U\S\Y\ goes low and remains low throughout the conversion. If EXT/I\N\T\ is low, data are serially transmitted while B\U\S\Y\ is low. B\U\S\Y\ is 3-stated when C\S\ is high.", 15 PWRD (in) "Power-down input. When high, the majority of the ADS7812/ADS7813/ADS8513 circuitry is placed in a low-power mode and power consumption is significantly reduced.", 16 VS (power) "+5V supply input. For best performance, decouple to ground with a 0.1uF ceramic capacitor in parallel with a 10uF tantalum capacitor."

## ADS8513IBDWR
designator U?
16-Bit 40 kSPS Low Power Sampling ADC with IR & Serial Interface and TAG, -40 to 85 degC, 16-pin SOIC (DW16), Green (RoHS & no Sb/Br); Manufacturer: Texas Instruments; PartNumber: ADS8513IBDWR; # Input Channels: 1; Analog Voltage AV/DD(Max)(V): 5.25; Analog Voltage AV/DD(Min)(V): 4.75; Architecture: SAR; INL(Max)(+/-LSB): 2; Interface: Serial SPI; Resolution(Bits): 16; Sample Rate (max)(SPS): 40k; SFDR(dB): 102; SINAD(dB): 89; SubFamily: Precision ADC (<=10MSPS); DatasheetVersion: SLAS486C; PackageVersion: 4040000-2/G, 01/2011; PackageReference: DW16; PackageDescription: 16-Pin Plastic Small Outline, Body 10.30 x 7.50 mm, Pitch 1.27 mm; Supplier 1: Digi-Key; Supplier Part Number 1: ADS7825U-ND; Supplier 2: Farnell; Supplier Part Number 2: 1097512; Supplier 3: Newark; Supplier Part Number 3: 14M8151; Supplier 4: Mouser; Supplier Part Number 4: 595-ADS7825U; Digital Supply(Max)(V): 5.25; Digital Supply(Min)(V): 4.75; Eco-Plan: Green (RoHS & no Sb/Br); SNR(dB): 89; Mounting Technology: Surface Mount; Code_JEDEC: MS-013; ComponentLink1Description: Manufacturer URL; ComponentLink1URL: http://www.ti.com/; ComponentLink2Description: Datasheet; ComponentLink2URL: http://www.ti.com/general/docs/lit/getliterature.tsp?genericPartNumber=ADS8513&fileType=pdf; ComponentLink3Description: Package Specification; ComponentLink3URL: http://www.ti.com/litv/pdf/msoi003g
footprint TI-DW16_N (SOIC, 16-Leads, Body 10.3x7.5mm, Pitch 1.27mm, IPC Medium Density)
footprint TI-DW16_L (SOIC, 16-Leads, Body 10.3x7.5mm, Pitch 1.27mm, IPC High Density)
footprint TI-DW16_M (SOIC, 16-Leads, Body 10.3x7.5mm, Pitch 1.27mm, IPC Low Density)
pins: 1 R1IN (in) "Analog input", 2 GND (power) "Ground.", 3 R2IN (in) "Analog input", 4 R3IN (in) "Analog input", 5 BUF (out) "Reference buffer output. Connect to R1IN, R2IN, or R3IN as needed", 6 CAP "Reference buffer compensation node. Decouple to ground with a 1-uF tantalum capacitor in parallel with a 0.01uF ceramic capacitor.", 7 REF (io) "Reference input/output. Outputs internal 2.5V reference via a series 4kohm resistor. Decouple this voltage with a 1uF to 2.2uF tantalum capacitor to ground. If an external reference voltage is applied to this pin, it (See Datasheet)", 8 GND (power) "Ground.", 9 DATACLK (io) "Data clock pin. With EXT/I\N\T\ low, this pin is an output and provides the synchronous clock for the serial data. The output is 3-stated when C\S\ is high. With EXT/I\N\T\ high, this pin is an input and the serial data (See Datasheet)", 10 DATA (hiz) "Serial data output. The serial data are always the result of the last completed conversion and are synchronized to DATACLK. If DATACLK is from the internal clock (EXT/I\N\T\ low), the serial data are valid on both the rising (See Datasheet)", 11 EXT/~{INT} (in), 12 ~{CONV} (in) "Convert input. A falling edge on this input puts the internal sample/hold into the hold state and starts a conversion regardless of the state of C\S\. If a conversion is already in progress, the falling edge is ignored. If (See Datasheet)", 13 ~{CS} (in) "Chip select. This input 3-states all outputs when high and enables all outputs when low, including DATA, B\U\S\Y\, and DATACLK (when EXT/I\N\T\ is low). Note that a falling edge on C\O\N\V\ initiates a conversion even when (See Datasheet)", 14 ~{BUSY} (hiz) "Busy output. When a conversion starts, B\U\S\Y\ goes low and remains low throughout the conversion. If EXT/I\N\T\ is low, data are serially transmitted while B\U\S\Y\ is low. B\U\S\Y\ is 3-stated when C\S\ is high.", 15 PWRD (in) "Power-down input. When high, the majority of the ADS7812/ADS7813/ADS8513 circuitry is placed in a low-power mode and power consumption is significantly reduced.", 16 VS (power) "+5V supply input. For best performance, decouple to ground with a 0.1uF ceramic capacitor in parallel with a 10uF tantalum capacitor."